# Altium footprint library syhaunguyen.PcbLib: 329 footprints (part 12 of 21)
Each footprint in its own frame and in the unit in brackets; x right, y up, seen from the top. Pads: shape width x height; smd on the part's side, far side on the other; paste and mask are expansions set on the pad; w line width, h text height; cw(c..) or ccw(c..) is an arc to the next point about the centre after c.
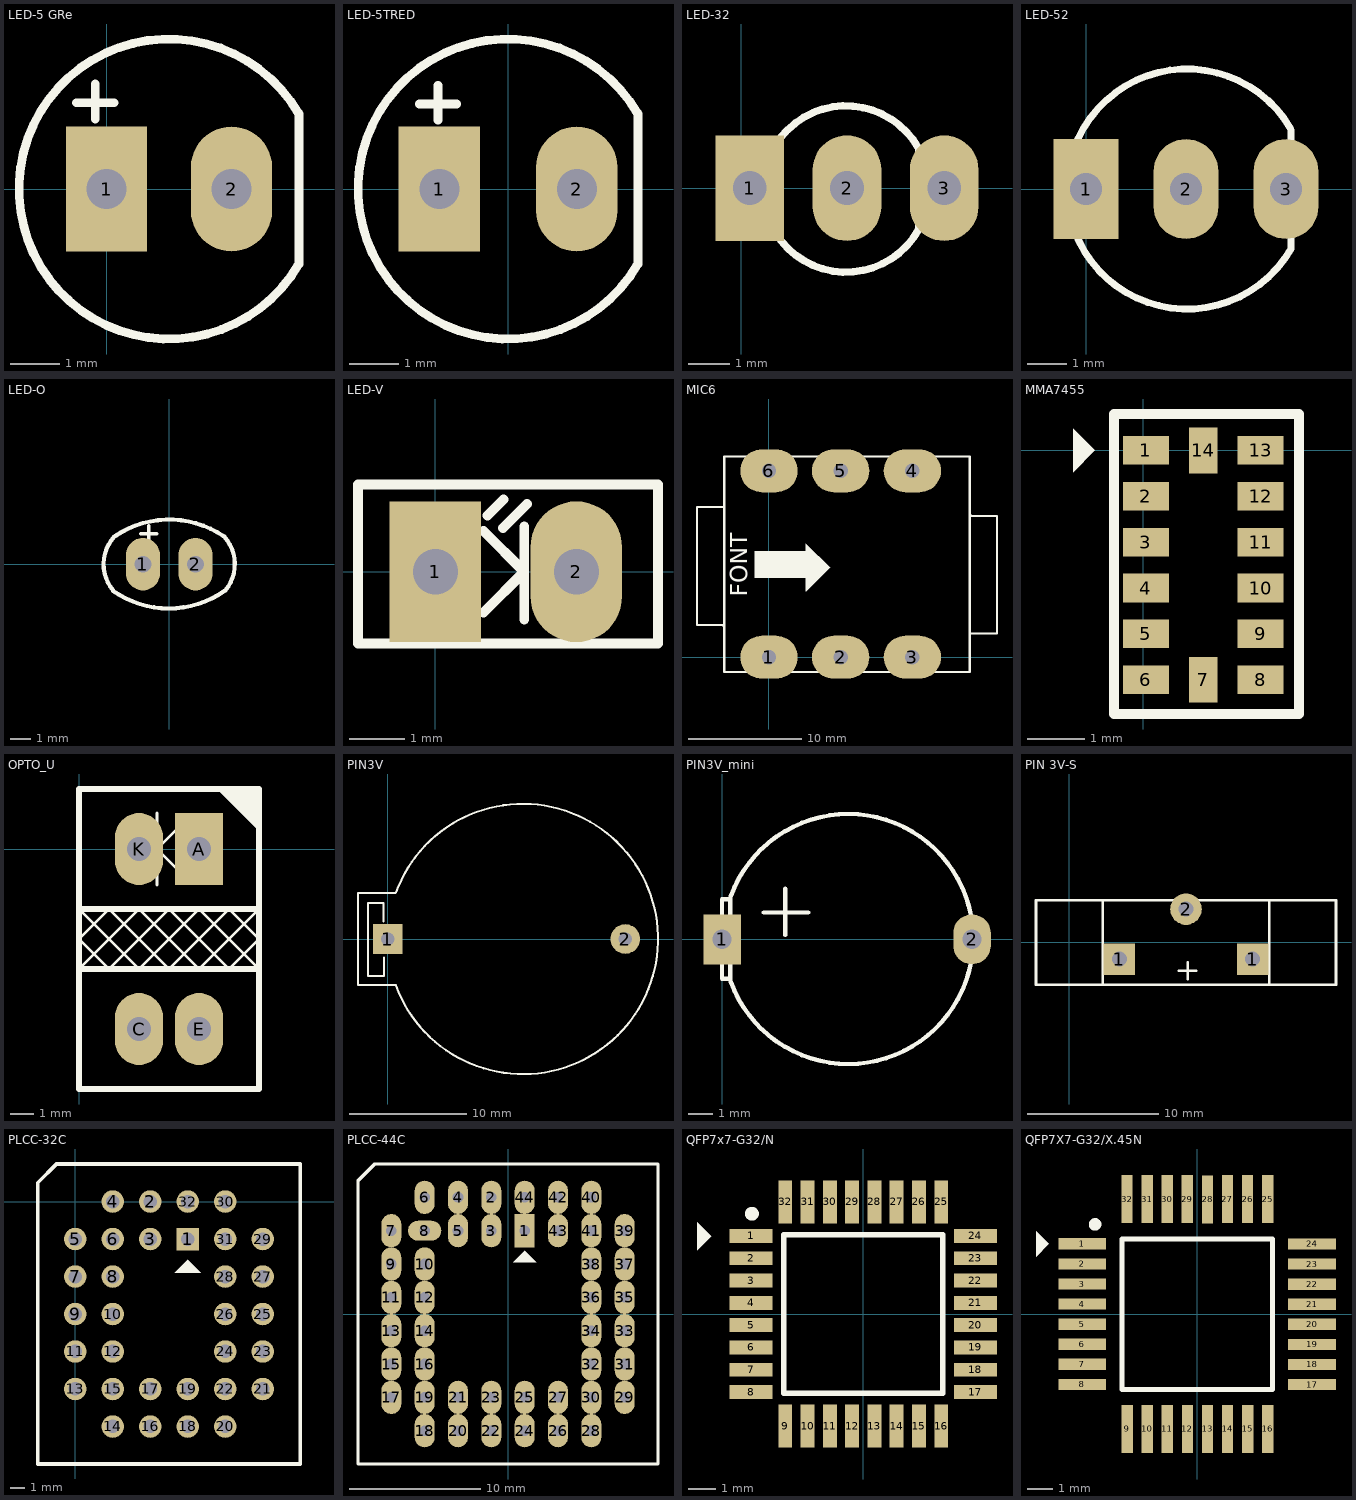
[diagram p11: the footprints below, top view; thin cyan lines are the x and y axes]

## LED-5 GRe [mil] "LED 2 PIN, 5 ly , Only colour,pin to pin 100mil"
height 300
pads (2):
  rect 65x100 hole 32: 1(0,0)
  oval 65x100 hole 32: 2(100,0)
Top Overlay:
  lines w7: -24,69 6,69 ; -9,56 -9,84 ; 153.51,60.71 ccw(c50,0) 153.94,-59.97 ; 154,-59 154,60
3D body: height 336.82, standoff -117.51, extent -54.33,-103.65 154.33,105.01

## LED-5TRED [mil] "LED 2 PIN, 5 ly , Only colour, pin to pin 110mil"
height 300
pads (2):
  rect 65x100 hole 32: 1(-55,0)
  oval 65x100 hole 32: 2(55,0)
Top Overlay:
  lines w7: -71,68 -41,68 ; -56,55 -56,83 ; 103.51,60.71 ccw(c0,0) 103.94,-59.97 ; 104,-59 104,60
3D body: height 339.18, standoff -243.49, extent -115.69,-117 97.7,120

## LED-32 [mil] "LED 3 PIN, 3ly Two colour"
height 300
pads (3):
  rect 65x100 hole 32: 1(8,0)
  oval 65x100 hole 32: 2(100,0) 3(192,0)
Top Overlay:
  lines w7: 168,-39 168,37
  lines w7.01: 167.87,37.48 ccw(c99.08,-0.84) 167.97,-38.98

## LED-52 [mil] "LED 3 PIN, 5 ly , Two colour"
height 300
pads (3):
  rect 65x100 hole 32: 1(0,0)
  oval 65x100 hole 32: 2(100,0) 3(200,0)
Top Overlay:
  lines w7: 204.51,60.71 ccw(c101,0) 204.94,-59.97 ; 205,-59 205,59

## LED-O [mil] "LED 2 PIN,  Ovan Only colour, pin to pin 110mil"
height 300
pads (2):
  oval 65x100 hole 32: 1(-50,0) 2(50,0)
Top Overlay:
  lines w7: -54,58 -24,58 ; -39,43 -39,73
  lines w8: -106.82,-49.85 cw(c-47,0) -104.5,52.5 ; -106.38,-51.11 ccw(c-0.81,100.81) 104.97,-50.96 ; -102.83,53.79 cw(c0,-100) 103.93,53.04 ; 104.5,52.5 cw(c47,0) 106.82,-49.85

## LED-V [mil] "LED 2 PIN, Rectang Only colour"
height 300
pads (2):
  rect 65x100 hole 32: 1(0,0)
  oval 65x100 hole 32: 2(100,0)
Top Overlay:
  lines w7: 34,-29 63,0 34,29 ; 37,40 48.3,51.3 ; 48,31 65,48 ; 63,-34 63,32 ; -55,-51 158,-51 158,62 -55,62 -55,-51

## MIC6 [mil] "Jac Mic 6 pin to"
pads (6):
  oval 200x150 hole 50: 1(0,0) 2(250,0) 3(500,0) 4(500,650) 5(250,650) 6(0,650)
Top Overlay:
  region: -50,369 -50,277 130,277 129,278 129,230 130,230 212,312 213,312 129,396 129,369
  lines w7: -156,-51 -156,699 ; -156,89 -156,525 -158,523 -251,523 -251,112 -162,112 -156,106 ; -156,700 700,700 700,590 ; -155,-52 -154,-51 -153,-52 700,-52 700,82 ; 700,499 706,493 795,493 795,82 702,82 700,80 700,594
  text "FONT" at -75,210 h60

## MMA7455 [mm]
pads (14):
  rect 0.8x0.5 smd: 1(0.051,0) 2(0.051,-0.8) 3(0.051,-1.6) 4(0.051,-2.4) 5(0.051,-3.2) 6(0.051,-4) 8(2.051,-4) 9(2.051,-3.2) 10(2.051,-2.4) 11(2.051,-1.6) 12(2.051,-0.8) 13(2.051,0)
  rect 0.5x0.8 smd: 7(1.051,-4) 14(1.051,0)
Top Overlay:
  region: -1.219,0.381 -0.838,0 -1.219,-0.381
  lines w0.178: -0.508,-4.572 -0.508,0.635 2.718,0.635 2.718,-4.597 ; 2.718,-4.597 -0.508,-4.597 2.718,-4.597

## OPTO_U [mil] "Opto hinh chu U"
height 104.33
pads (4):
  rect 80x120 hole 40: A(200,0)
  oval 80x120 hole 40: C(100,-300) E(200,-300) K(100,0)
Top Overlay:
  region: 297.5,97.5 232.5,97.5 297.5,32.5
  lines w5: 0,-200 50,-150 100,-100 200,-200 230,-170 300,-100 300,-200 200,-100 100,-200 90,-190 60,-160 0,-100 ; 130,-60 130,60 ; 180,-50 180,50 ; 180,-50 180,50 ; 180,-50 130,0 180,50 ; 0,-150 30,-180 50,-200 150,-100 250,-200 300,-150 250,-100 150,-200 50,-100 0,-150
  lines w10: 0,-200 300,-200 ; 0,-150 0,-110 ; 0,-100 300,-100 ; 300,-150 300,-140 ; 0,-400 300,-400 300,100 0,100 0,-400
3D body: height 374.02, standoff -100, extent 43.46,-346.85 260,46.85

## PIN3V [mil] "Socket PIN 3V"
pads (2):
  rect 100x100 hole 45: 1(0,0)
  round 100 hole 45: 2(800,0)
Top Overlay:
  lines w7: -14,59 -14,121 -66,121 -66,-124 -13,-124 -13,-63 ; 26.33,155 -100,155 -100,-155 27.93,-155 ; 27.6,156.07 cw(c455,0) 27.93,-156.97
3D body: height 278.16, standoff -137.2, extent -128.09,-446.83 1001.83,448.83

## PIN3V_mini [mil] "Socket PIN 3V"
pads (2):
  rect 60x80 hole 31: 1(0,0)
  oval 60x80 hole 31: 2(400,0)
Top Overlay:
  lines w7: 11,64 0,64 0,-63 13,-63 ; 13,-64 13,65 ; 14,-67.81 ccw(c201.94,0.6) 14,69 ; 67,43 138,43 ; 101,7 101,81

## PIN 3V-S [mil] "Socket PIN 3V"
pads (3):
  rect 95x95 hole 45: 1(150,-50) 1(550,-50)
  round 95 hole 45: 2(350,100)
Top Overlay:
  lines w8: 100,-127 100,127 ; 329,-85 380,-85 ; 355,-110 355,-60 ; 600,-127 600,127 ; -100,-127 -100,127 800,127 800,-127 -100,-127

## PLCC-32C [mil] "Socket PLCC32R"
height 200
pads (32):
  rect 60x60 hole 36: 1(300,-100)
  round 60 hole 36: 2(200,0) 3(200,-100) 4(100,0) 5(0,-100) 6(100,-100) 7(0,-200) 8(100,-200) 9(0,-300) 10(100,-300) 11(0,-400) 12(100,-400) 13(0,-500) 14(100,-600) 15(100,-500) 16(200,-600) 17(200,-500) 18(300,-600) 19(300,-500) 20(400,-600) 21(500,-500) 22(400,-500) 23(500,-400) 24(400,-400) 25(500,-300) 26(400,-300) 27(500,-200) 28(400,-200) 29(500,-100) 30(400,0) 31(400,-100) 32(300,0)
Top Overlay:
  region: 300,-155 265,-190 335,-190
  lines w10: -100,-700 600,-700 600,100 -50,100 -100,50 -100,-700

## PLCC-44C [mil] "QPC-44C"
height 200
pads (44):
  rect 60x100 hole 32: 1(50,250)
  oval 60x100 hole 32: 2(-50,350) 3(-50,250) 4(-150,350) 5(-150,250) 6(-250,350) 7(-350,250) 9(-350,150) 10(-250,150) 11(-350,50) 12(-250,50) 13(-350,-50) 14(-250,-50) 15(-350,-150) 16(-250,-150) 17(-350,-250) 18(-250,-350) 19(-250,-250) 20(-150,-350) 21(-150,-250) 22(-50,-350) 23(-50,-250) 24(50,-350) 25(50,-250) 26(150,-350) 27(150,-250) 28(250,-350) 29(350,-250) 30(250,-250) 31(350,-150) 32(250,-150) 33(350,-50) 34(250,-50) 35(350,50) 36(250,50) 37(350,150) 38(250,150) 39(350,250) 40(250,350) 41(250,250) 42(150,350) 43(150,250) 44(50,350)
  oval 100x60 hole 32: 8(-250,250)
Top Overlay:
  region: 50,190 15,155 85,155
  lines w10: -450,-450 450,-450 450,450 -400,450 -450,400 -450,-450

## QFP7x7-G32/N [mm] "32-Pin Plastic Thin Quad Flat Pack (TFQP)"
height 1.2
pads (32):
  rect 1.55x0.5 smd: 1(-4.025,2.8) 2(-4.025,2) 3(-4.025,1.2) 4(-4.025,0.4) 5(-4.025,-0.4) 6(-4.025,-1.2) 7(-4.025,-2) 8(-4.025,-2.8) 17(4.025,-2.8) 18(4.025,-2) 19(4.025,-1.2) 20(4.025,-0.4) 21(4.025,0.4) 22(4.025,1.2) 23(4.025,2) 24(4.025,2.8)
  rect 0.5x1.55 smd: 9(-2.8,-4.025) 10(-2,-4.025) 11(-1.2,-4.025) 12(-0.4,-4.025) 13(0.4,-4.025) 14(1.2,-4.025) 15(2,-4.025) 16(2.8,-4.025) 25(2.8,4.025) 26(2,4.025) 27(1.2,4.025) 28(0.4,4.025) 29(-0.4,4.025) 30(-1.2,4.025) 31(-2,4.025) 32(-2.8,4.025)
Top Overlay:
  circle w0.25: c-4,3.6 r0.125
  region: -5.969,3.302 -5.461,2.794 -5.969,2.286
  lines w0.2: -2.85,-2.85 2.85,-2.85 2.85,2.85 -2.85,2.85 -2.85,-2.85

## QFP7X7-G32/X.45N [mm] "QFP; 32 Leads; Body 7 x 7 mm; Pitch 0.8 mm"
height 1.6
pads (32):
  rect 1.905x0.45 smd: 1(-4.583,2.8) 2(-4.583,2) 3(-4.583,1.2) 4(-4.583,0.4) 5(-4.583,-0.4) 6(-4.583,-1.2) 7(-4.583,-2) 8(-4.583,-2.8) 17(4.572,-2.806) 18(4.572,-2.006) 19(4.572,-1.206) 20(4.572,-0.406) 21(4.572,0.394) 22(4.572,1.194) 23(4.572,1.994) 24(4.572,2.794)
  rect 0.45x1.905 smd: 9(-2.794,-4.572) 10(-1.994,-4.572) 11(-1.194,-4.572) 12(-0.394,-4.572) 13(0.406,-4.572) 14(1.206,-4.572) 15(2.006,-4.572) 16(2.806,-4.572) 25(2.8,4.583) 26(2,4.583) 27(1.2,4.583) 28(0.406,4.572) 29(-0.4,4.583) 30(-1.2,4.583) 31(-2,4.583) 32(-2.8,4.583)
Top Overlay:
  circle w0.25: c-4.075,3.575 r0.125
  region: -6.426,3.302 -5.918,2.794 -6.426,2.286
  lines w0.2: -3,-3 -3,3 3,3 3,-3 -3,-3
3D body: height 1.13, standoff 0.02, extent -4.743,-4.857 4.857,4.743